# Altium footprint library Dip Switch SMD 4 pos.PcbLib: 1 footprints
Each footprint in its own frame and in the unit in brackets; x right, y up, seen from the top. Pads: shape width x height; smd on the part's side, far side on the other; paste and mask are expansions set on the pad; w line width, h text height; cw(c..) or ccw(c..) is an arc to the next point about the centre after c.
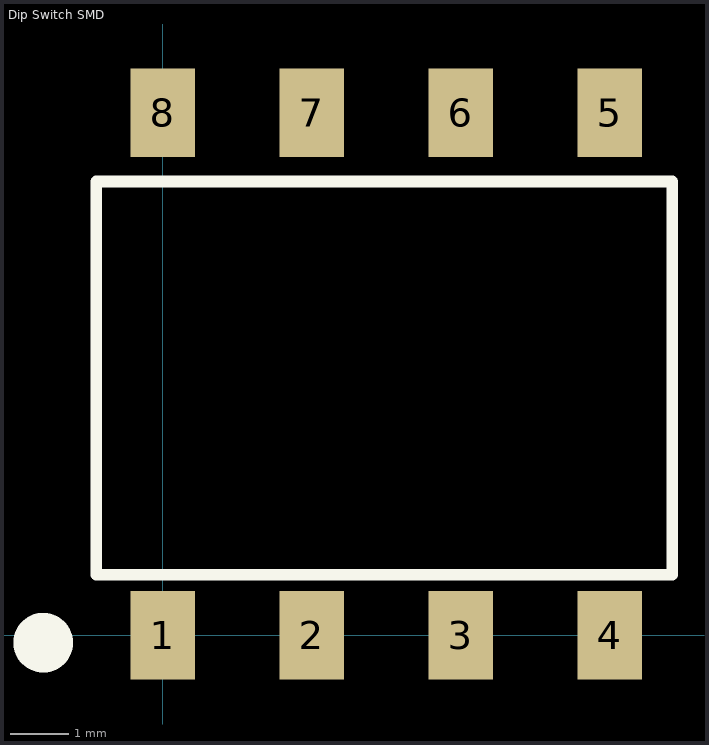
[diagram p0: the footprint, top view; thin cyan lines are the x and y axes]

## Dip Switch SMD [mm]
pads (8):
  rect 1.1x1.5 smd: 1(0,0) 2(2.54,0) 3(5.08,0) 4(7.62,0) 5(7.62,8.9) 6(5.08,8.9) 7(2.54,8.9) 8(0,8.9)
Top Overlay:
  circle w0.762: c-2.032,-0.127 r0.127
  lines w0.2: -1.13,1.03 -1.13,2.48 -1.13,7.73 8.6,7.73 8.68,7.73 8.68,1.03 -1.07,1.03
3D body "CUI_DEVICES_DS04-254-2-04BK-SMT-TR.step": height 3.99, standoff -0.01, extent -1.635,-0.632 9.525,9.268